# Altium footprint library LGA.PcbLib: 6 footprints
Each footprint in its own frame and in the unit in brackets; x right, y up, seen from the top. Pads: shape width x height; smd on the part's side, far side on the other; paste and mask are expansions set on the pad; w line width, h text height; cw(c..) or ccw(c..) is an arc to the next point about the centre after c.
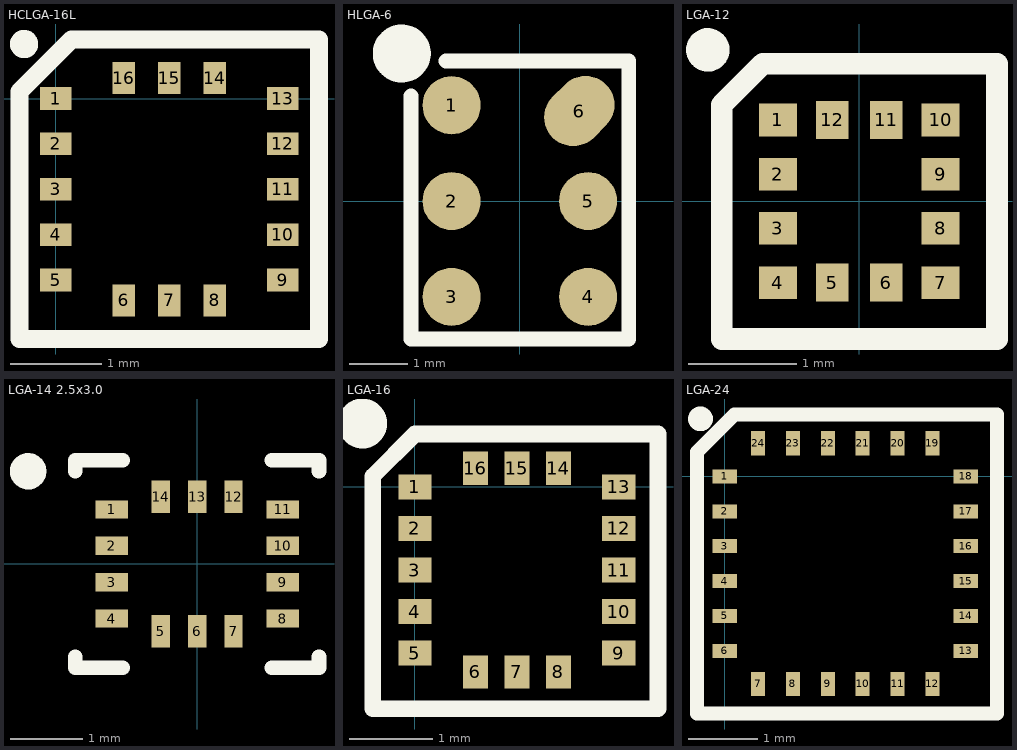
[diagram p0: the footprints below, top view; thin cyan lines are the x and y axes]

## HCLGA-16L [mm]
pads (16):
  rect 0.35x0.25 smd: 1(0,0) 2(0,-0.5) 3(0,-1) 4(0,-1.5) 5(0,-2) 9(2.5,-2) 10(2.5,-1.5) 11(2.5,-1) 12(2.5,-0.5) 13(2.5,0)
  rect 0.25x0.35 smd: 6(0.75,-2.225) 7(1.25,-2.225) 8(1.75,-2.225) 14(1.75,0.225) 15(1.25,0.225) 16(0.75,0.225)
Top Overlay:
  circle w0.2: c-0.35,0.6 r0.056
  lines w0.2: -0.4,-2.65 -0.4,0.075 0.175,0.65 2.9,0.65 2.9,-2.65 -0.4,-2.65
3D body "User Library-LIS331AL.STEP": height 1.01, standoff -0.01, extent -0.25,-2.5 2.75,0.5

## HLGA-6 [mm]
pads (6):
  round 1 smd: 1(-1.175,1.65) 2(-1.175,0) 3(-1.175,-1.65) 4(1.175,-1.65) 5(1.175,0)
  oval 1x1.3 smd rot 135: 6(1.025,1.55)
Top Overlay:
  circle w0.5: c-2.032,2.54 r0.25
  lines w0.254: -1.875,1.808 -1.875,-2.375 1.875,-2.375 1.875,2.413 -1.27,2.413
3D body: height 0.8, standoff 0, extent -1.875,-2.35 1.875,2.375

## LGA-12 [mm]
pads (12):
  rect 0.35x0.3 smd: 1(-0.75,0.75) 2(-0.75,0.25) 3(-0.75,-0.25) 4(-0.75,-0.75) 7(0.75,-0.75) 8(0.75,-0.25) 9(0.75,0.25) 10(0.75,0.75)
  rect 0.3x0.35 smd: 5(-0.25,-0.75) 6(0.25,-0.75) 11(0.25,0.75) 12(-0.25,0.75)
Top Overlay:
  circle w0.2: c-1.397,1.397 r0.1
  lines w0.2: -1.27,-1.27 -1.27,0.889 -0.889,1.27 1.27,1.27 1.27,-1.27 -1.27,-1.27
3D body "User Library-LGA-14 2x2x1.STEP": height 1, standoff 0, extent -1.1,-1.05 1.05,1.1

## LGA-14 2.5x3.0 [mm] "LGA, 14-Leads, Body 3,00x2,50mm, Pitch 0,50mm"
height 0.86
pads (14):
  rect 0.45x0.25 smd: 1(-1.175,0.75) 2(-1.175,0.25) 3(-1.175,-0.25) 4(-1.175,-0.75) 8(1.175,-0.75) 9(1.175,-0.25) 10(1.175,0.25) 11(1.175,0.75)
  rect 0.25x0.45 smd: 5(-0.5,-0.925) 6(0,-0.925) 7(0.5,-0.925) 12(0.5,0.925) 13(0,0.925) 14(-0.5,0.925)
Top Overlay:
  circle w0.25: c-2.325,1.275 r0.125
  lines w0.2: -1.675,-1.275 -1.675,-1.425 -1.025,-1.425 ; -1.675,1.275 -1.675,1.425 -1.025,1.425 ; 1.025,-1.425 1.675,-1.425 1.675,-1.275 ; 1.025,1.425 1.675,1.425 1.675,1.275
3D body: height 0.86, standoff 0.01, extent -1.5,-1.25 1.5,1.25

## LGA-16 [mm]
pads (16):
  rect 0.4x0.3 smd: 1(0,0) 2(0,-0.5) 3(0,-1) 4(0,-1.5) 5(0,-2) 9(2.45,-2) 10(2.45,-1.5) 11(2.45,-1) 12(2.45,-0.5) 13(2.45,0)
  rect 0.3x0.4 smd: 6(0.725,-2.225) 7(1.225,-2.225) 8(1.725,-2.225) 14(1.725,0.225) 15(1.225,0.225) 16(0.725,0.225)
Top Overlay:
  circle w0.5: c-0.635,0.762 r0.05
  lines w0.2: -0.508,-2.667 2.921,-2.667 2.921,0.635 0,0.635 -0.508,0.127 -0.508,-2.667
3D body "User Library-LIS331AL.STEP": height 1.01, standoff -0.01, extent -0.275,-2.5 2.725,0.5

## LGA-24 [mm]
pads (24):
  rect 0.35x0.2 smd: 1(0,0) 2(0,-0.5) 3(0,-1) 4(0,-1.5) 5(0,-2) 6(0,-2.5) 13(3.45,-2.5) 14(3.45,-2) 15(3.45,-1.5) 16(3.45,-1) 17(3.45,-0.5) 18(3.45,0)
  rect 0.2x0.35 smd: 7(0.475,-2.975) 8(0.975,-2.975) 9(1.475,-2.975) 10(1.975,-2.975) 11(2.475,-2.975) 12(2.975,-2.975) 19(2.975,0.475) 20(2.475,0.475) 21(1.975,0.475) 22(1.475,0.475) 23(0.975,0.475) 24(0.475,0.475)
Top Overlay:
  circle w0.254: c-0.35,0.825 r0.05
  lines w0.2: -0.4,-3.4 3.9,-3.4 3.9,0.889 0.139,0.889 -0.4,0.35 -0.4,-3.4
3D body "User Library-LGA-24.STEP": height 1.08, standoff 0, extent -0.25,-3.25 3.75,0.75